# Altium integrated library LM317T.IntLib: 1 symbol
Pins are listed as number, name and electrical type; pins without a type are passive.

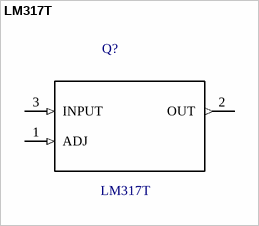
[diagram p0: symbol LM317T]

## LM317T
designator Q?
LM317 Series 40 Vin 1.5 A Adjustable Positive Voltage Regulator - TO-220-3; MF: Texas Instruments; Price: None; Package: TO-220 Texas Instruments; SnapEDA_Link: https://www.snapeda.com/parts/LM317T/Texas%20Instruments/view-part/?ref=snap; Availability: Unavailable; MP: LM317T; Value: *
footprint TO254P450X1020X2000-3P
pins: 1 ADJ (in), 2 OUT (out), 3 INPUT (in)